# EAGLE library part MC3PHAC (library Menic)
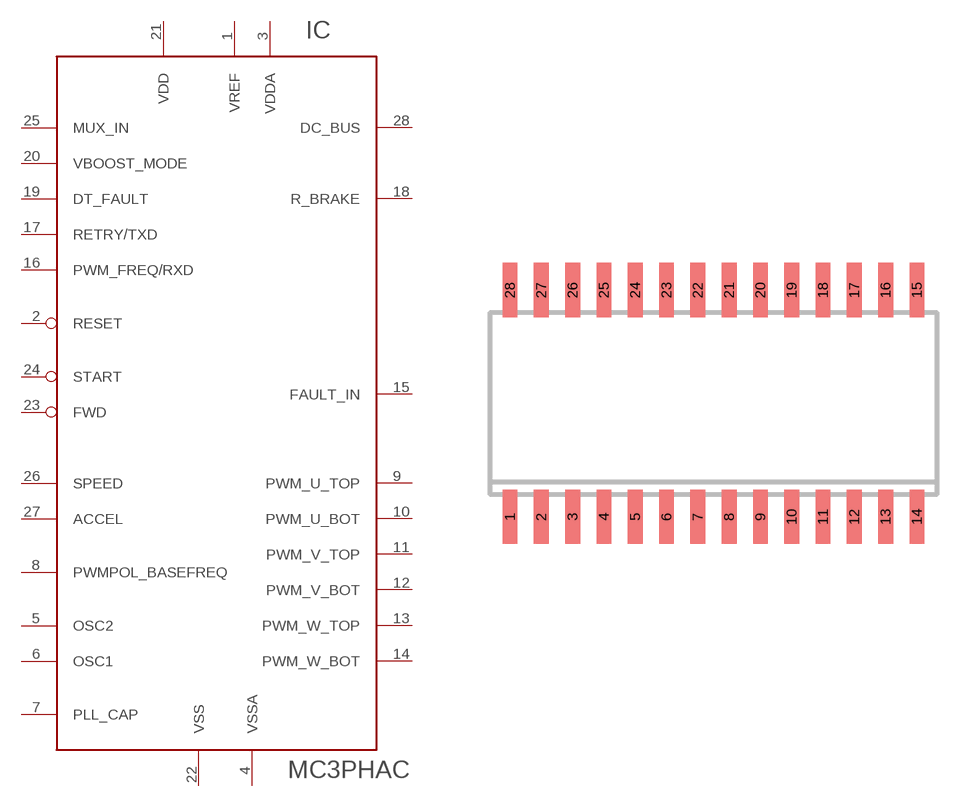
[diagram p0: symbol with the pads of SO28W; footprint SO28W]

Designator prefix IC

## MC3PHAC (VALUE: MC3PHAC)  [SO28W]
1  VREF  in
2  RESET  in
3  VDDA  pwr
4  VSSA  pwr
5  OSC2  pas
6  OSC1  pas
7  PLL_CAP  pas
8  PWMPOL_BASEFREQ
9  PWM_U_TOP  out
10  PWM_U_BOT  out
11  PWM_V_TOP  out
12  PWM_V_BOT  out
13  PWM_W_TOP  out
14  PWM_W_BOT  out
15  FAULT_IN
16  PWM_FREQ/RXD
17  RETRY/TXD
18  R_BRAKE  out
19  DT_FAULT  in
20  VBOOST_MODE
21  VDD  pwr
22  VSS  pwr
23  FWD  in
24  START  in
25  MUX_IN
26  SPEED
27  ACCEL
28  DC_BUS

## Footprint SO28W (pad centres in mm)
SMALL OUTLINE INTEGRATED CIRCUIT wide body 7.5 mm/JEDEC MO-119AB
smd 0.6 x 2.2: 1 -8.255,-4.6; 2 -6.985,-4.6; 3 -5.715,-4.6; 4 -4.445,-4.6; 5 -3.175,-4.6; 6 -1.905,-4.6; 7 -0.635,-4.6; 8 0.635,-4.6; 9 1.905,-4.6; 10 3.175,-4.6; 11 4.445,-4.6; 12 5.715,-4.6; 13 6.985,-4.6; 14 8.255,-4.6; 15 8.255,4.6; 16 6.985,4.6; 17 5.715,4.6; 18 4.445,4.6; 19 3.175,4.6; 20 1.905,4.6; 21 0.635,4.6; 22 -0.635,4.6; 23 -1.905,4.6; 24 -3.175,4.6; 25 -4.445,4.6; 26 -5.715,4.6; 27 -6.985,4.6; 28 -8.255,4.6